# EAGLE library part TSW-D-08 (library con-samtec-tsw)
HEADER
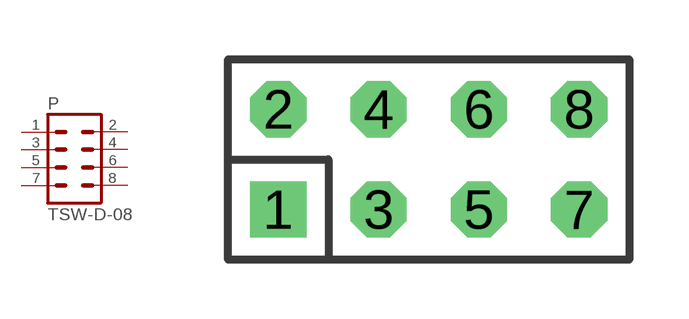
[diagram p91: symbol with the pads of TSW-D-08; footprint TSW-D-08]

Designator prefix P

## TSW-D-08  [TSW-D-08]
1  1  pas
2  2  pas
3  3  pas
4  4  pas
5  5  pas
6  6  pas
7  7  pas
8  8  pas

## Footprint TSW-D-08 (pad centres in mm)
HEADER
drill 0.914 square: 1 -3.81,-1.27
drill 0.914 octagon: 2 -3.81,1.27; 3 -1.27,-1.27; 4 -1.27,1.27; 5 1.27,-1.27; 6 1.27,1.27; 7 3.81,-1.27; 8 3.81,1.27